# Altium integrated library Resistor 1206.IntLib: 18 symbols
Pins are listed as number, name and electrical type; pins without a type are passive.

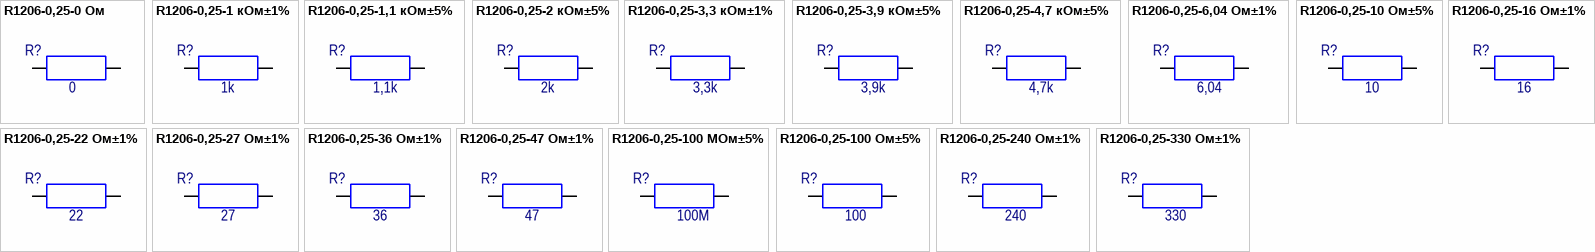
[diagram p0: symbols R1206-0,25-0 Ом to R1206-0,25-330 Ом±1%]

## R1206-0,25-0 Ом
designator R?  value 0
RES SMD 0.0 OHM JUMPER 1/4W 1206; Manufacturer: Vishay Dale; ManufacturerPartNumber: CRCW12060000Z0; Group: 9130; RegulationProcent: 10; TypeName: Резистор; Distributor: Digi-key; DistributorPartNumber: 541-0.0ECT-ND; LatestRevisionDate: 01.04.2016; Library: Resistor 1206; Package: 3216 [1206]; Published: 01.04.2016; Publisher: Stanchik A
footprint RESC3216N [1206] (Chip Resistor, Body 3.2x1.6mm, IPC Medium Density)
pins: 1, 2

## R1206-0,25-1 кОм±1%
designator R?  value 1k
RES SMD 1K OHM 1% 1/4W 1206; Manufacturer: Vishay Dale; ManufacturerPartNumber: CRCW12061K00FK; Group: 9130; RegulationProcent: 10; TypeName: Резистор; Distributor: Digi-key; DistributorPartNumber: 541-1.00KFCT-ND; LatestRevisionDate: 16.06.2016; Library: Resistor 1206; Package: 3216 [1206]; Published: 16.06.2016; Publisher: Stanchik A
footprint RESC3216N [1206] (Chip Resistor, Body 3.2x1.6mm, IPC Medium Density)
pins: 1, 2

## R1206-0,25-1,1 кОм±5%
designator R?  value 1,1k
RES 1.1K OHM 1/4W 5% 1206 SMD; Manufacturer: Vishay Dale; ManufacturerPartNumber: CRCW12061K10JN; Group: 9130; RegulationProcent: 10; TypeName: Резистор; Distributor: Digi-key; DistributorPartNumber: 541-1.1KECT-ND; LatestRevisionDate: 10.07.2013; Library: Resistor 1206; Package: 3216 [1206]; Published: 10.07.2013; Publisher: Konon DI
footprint RESC3216N [1206] (Chip Resistor, Body 3.2x1.6mm, IPC Medium Density)
pins: 1, 2

## R1206-0,25-2 кОм±5%
designator R?  value 2k
RES SMD 2K OHM 5% 1/4W 1206; Manufacturer: Vishay Dale; ManufacturerPartNumber: CRCW12062K00JN; Group: 9130; RegulationProcent: 10; TypeName: Резистор; Distributor: Digi-key; DistributorPartNumber: 541-2.0KECT-ND; LatestRevisionDate: 29.09.2017; Library: Resistor 1206; Package: 3216 [1206]; Published: 29.09.2017; Publisher: Stanchik A
footprint RESC3216N [1206] (Chip Resistor, Body 3.2x1.6mm, IPC Medium Density)
pins: 1, 2

## R1206-0,25-3,3 кОм±1%
designator R?  value 3,3k
RES SMD 3.3K OHM 1% 1/4W 1206; Manufacturer: Vishay Dale; ManufacturerPartNumber: CRCW12063K30FK; Group: 9130; RegulationProcent: 10; TypeName: Резистор; Distributor: Digi-key; DistributorPartNumber: 541-3.30KFCT-ND; LatestRevisionDate: 20.10.2017; Library: Resistor 1206; Package: 3216 [1206]; Published: 20.10.2017; Publisher: Stanchik A
footprint RESC3216N [1206] (Chip Resistor, Body 3.2x1.6mm, IPC Medium Density)
pins: 1, 2

## R1206-0,25-3,9 кОм±5%
designator R?  value 3,9k
RES SMD 3.9K OHM 5% 1/4W 1206; Manufacturer: Vishay Dale; ManufacturerPartNumber: CRCW12063K90JN; Group: 9130; RegulationProcent: 10; TypeName: Резистор; Distributor: Digi-key; DistributorPartNumber: 541-3.9KECT-ND; LatestRevisionDate: 12.07.2017; Library: Resistor 1206; Package: 3216 [1206]; Published: 12.07.2017; Publisher: Stanchik A
footprint RESC3216N [1206] (Chip Resistor, Body 3.2x1.6mm, IPC Medium Density)
pins: 1, 2

## R1206-0,25-4,7 кОм±5%
designator R?  value 4,7k
RES 4.7K OHM 1/4W 5% 1206 SMD; Manufacturer: Vishay Dale; ManufacturerPartNumber: CRCW12064K70JN; Group: 9130; RegulationProcent: 10; TypeName: Резистор; Distributor: Digi-key; DistributorPartNumber: 541-4.7KECT-ND; LatestRevisionDate: 10.07.2013; Library: Resistor 1206; Package: 3216 [1206]; Published: 10.07.2013; Publisher: Konon DI
footprint RESC3216N [1206] (Chip Resistor, Body 3.2x1.6mm, IPC Medium Density)
pins: 1, 2

## R1206-0,25-6,04 Ом±1%
designator R?  value 6,04
RES SMD 6.04 OHM 1% 1/4W 1206; Manufacturer: Vishay Dale; ManufacturerPartNumber: CRCW12066R04FK; Group: 9130; RegulationProcent: 10; TypeName: Резистор; Distributor: Digi-key; DistributorPartNumber: 541-6.04FFCT-ND; LatestRevisionDate: 14.07.2017; Library: Resistor 1206; Package: 3216 [1206]; Published: 14.07.2017; Publisher: Stanchik A
footprint RESC3216N [1206] (Chip Resistor, Body 3.2x1.6mm, IPC Medium Density)
pins: 1, 2

## R1206-0,25-10 Ом±5%
designator R?  value 10
RES SMD 10 OHM 5% 1/4W 1206; Manufacturer: Vishay Dale; ManufacturerPartNumber: CRCW120610R0JN; Group: 9130; TypeName: Резистор; Distributor: Digi-key; DistributorPartNumber: 541-10ECT-ND; LatestRevisionDate: 05.02.2015; Library: Resistor 1206; Package: 3216 [1206]; Published: 05.02.2015; Publisher: Stanchik A; RegulationProcent: 10
footprint RESC3216N [1206] (Chip Resistor, Body 3.2x1.6mm, IPC Medium Density)
pins: 1, 2

## R1206-0,25-16 Ом±1%
designator R?  value 16
RES SMD 16 OHM 1% 1/4W 1206; Manufacturer: Vishay Dale; ManufacturerPartNumber: CRCW120616R0FK; Group: 9130; RegulationProcent: 10; TypeName: Резистор; Distributor: Digi-key; DistributorPartNumber: 541-16.0FCT-ND; LatestRevisionDate: 18.08.2017; Library: Resistor 1206; Package: 3216 [1206]; Published: 18.08.2017; Publisher: Stanchik A
footprint RESC3216N [1206] (Chip Resistor, Body 3.2x1.6mm, IPC Medium Density)
pins: 1, 2

## R1206-0,25-22 Ом±1%
designator R?  value 22
RES SMD 22 OHM 1% 1/4W 1206; Manufacturer: Vishay Dale; ManufacturerPartNumber: CRCW120622R0FK; Group: 9130; RegulationProcent: 10; TypeName: Резистор; Distributor: Digi-key; DistributorPartNumber: 541-22.0FCT-ND; LatestRevisionDate: 18.03.2015; Library: Resistor 1206; Package: 3216 [1206]; Published: 18.03.2015; Publisher: Stanchik A
footprint RESC3216N [1206] (Chip Resistor, Body 3.2x1.6mm, IPC Medium Density)
pins: 1, 2

## R1206-0,25-27 Ом±1%
designator R?  value 27
RES SMD 27 OHM 1% 1/4W 1206; Manufacturer: Vishay Dale; ManufacturerPartNumber: CRCW120627R0FK; Group: 9130; RegulationProcent: 10; TypeName: Резистор; Distributor: Digi-key; DistributorPartNumber: 541-27.0FCT-ND; LatestRevisionDate: 31.08.2017; Library: Resistor 1206; Package: 3216 [1206]; Published: 31.08.2017; Publisher: Stanchik A
footprint RESC3216N [1206] (Chip Resistor, Body 3.2x1.6mm, IPC Medium Density)
pins: 1, 2

## R1206-0,25-36 Ом±1%
designator R?  value 36
RES SMD 36 OHM 1% 1/4W 1206; Manufacturer: Vishay Dale; ManufacturerPartNumber: CRCW120636R0FK; Group: 9130; RegulationProcent: 10; TypeName: Резистор; Distributor: Digi-key; DistributorPartNumber: 541-36.0FCT-ND; LatestRevisionDate: 12.07.2017; Library: Resistor 1206; Package: 3216 [1206]; Published: 12.07.2017; Publisher: Stanchik A
footprint RESC3216N [1206] (Chip Resistor, Body 3.2x1.6mm, IPC Medium Density)
pins: 1, 2

## R1206-0,25-47 Ом±1%
designator R?  value 47
RES SMD 47 OHM 1% 1/4W 1206; Manufacturer: Vishay Dale; ManufacturerPartNumber: CRCW120647R0FK; Group: 9130; RegulationProcent: 10; TypeName: Резистор; Distributor: Digi-key; DistributorPartNumber: 541-47.0FCT-ND; LatestRevisionDate: 08.12.2015; Library: Resistor 1206; Package: 3216 [1206]; Published: 08.12.2015; Publisher: Stanchik A
footprint RESC3216N [1206] (Chip Resistor, Body 3.2x1.6mm, IPC Medium Density)
pins: 1, 2

## R1206-0,25-100 МОм±5%
designator R?  value 100M
RES SMD 100M OHM 5% 1/4W 1206; Manufacturer: Vishay Dale; ManufacturerPartNumber: CRCW1206100MJP; Group: 9130; RegulationProcent: 10; TypeName: Резистор; Distributor: Digi-key; DistributorPartNumber: 541-100MALCT-ND; LatestRevisionDate: 30.06.2015; Library: Resistor 1206; Package: 3216 [1206]; Published: 30.06.2015; Publisher: Stanchik A
footprint RESC3216N [1206] (Chip Resistor, Body 3.2x1.6mm, IPC Medium Density)
pins: 1, 2

## R1206-0,25-100 Ом±5%
designator R?  value 100
RES SMD 100 OHM 5% 1/4W 1206; Manufacturer: Vishay Dale; ManufacturerPartNumber: CRCW1206100RJN; Group: 9130; RegulationProcent: 10; TypeName: Резистор; Distributor: Digi-key; DistributorPartNumber: 541-100EDKR-ND; LatestRevisionDate: 09.12.2014; Library: Resistor 1206; Package: 3216 [1206]; Published: 09.12.2014; Publisher: Stanchik A
footprint RESC3216N [1206] (Chip Resistor, Body 3.2x1.6mm, IPC Medium Density)
pins: 1, 2

## R1206-0,25-240 Ом±1%
designator R?  value 240
RES SMD 240 OHM 1% 1/4W 1206; Manufacturer: Vishay Dale; ManufacturerPartNumber: CRCW1206240RFK; Group: 9130; RegulationProcent: 10; TypeName: Резистор; Distributor: Digi-key; DistributorPartNumber: 541-240FCT-ND; LatestRevisionDate: 16.06.2016; Library: Resistor 1206; Package: 3216 [1206]; Published: 16.06.2016; Publisher: Stanchik A
footprint RESC3216N [1206] (Chip Resistor, Body 3.2x1.6mm, IPC Medium Density)
pins: 1, 2

## R1206-0,25-330 Ом±1%
designator R?  value 330
RES SMD 330 OHM 1% 1/4W 1206; Manufacturer: Vishay Dale; ManufacturerPartNumber: CRCW1206330RFK; Group: 9130; RegulationProcent: 10; TypeName: Резистор; Distributor: Digi-key; DistributorPartNumber: 541-330FCT-ND; LatestRevisionDate: 30.11.2015; Library: Resistor 1206; Package: 3216 [1206]; Published: 30.11.2015; Publisher: Stanchik A
footprint RESC3216N [1206] (Chip Resistor, Body 3.2x1.6mm, IPC Medium Density)
pins: 1, 2